# EAGLE library part XTEND-DIGI-MODEM (library SparkFun-RF)
Digi XTend 900 1W RF Transceiver The XTend Modem packs a ton of RF punch into a small, low-power, easy-to-use, and reliable module. Outdoors, with line-of-sight, this module can communicate at up to 40 miles; indoors it can still do up to 3000ft. The module transfers a standard asynchronous serial data stream, operates within the ISM 900MHz frequency band and sustains up to 115.2kbps data throughput. The module comes with an attached RPSMA antenna connector. SparkFun Products XTend 900 1W RPSMA - 40 Mile Range <https://www.sparkfun.com/products/9411> (WRL-09411)
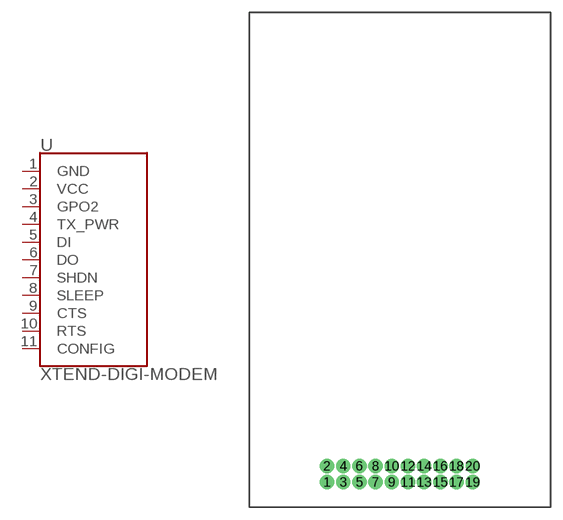
[diagram p14: symbol with the pads of XTEND-DIGI-MODEM; footprint XTEND-DIGI-MODEM]

Designator prefix -

## XTEND-DIGI-MODEM (SF_ID: WRL-09411)  [XTEND-DIGI-MODEM]
1  GND
2  VCC
3  GPO2
4  TX_PWR
5  DI
6  DO
7  SHDN
8  SLEEP
9  CTS
10  RTS
11  CONFIG

## Footprint XTEND-DIGI-MODEM (pad centres in mm)
Digi XTend 900 1W RF Module Module dimensions: 6.05 x 3.65 x 0.51 cm Package for the Xtend Digi Modem 40 mile range. Dimensional Drawing <https://www.sparkfun.com/datasheets/Wireless/Zigbee/xtend-mechanical.pdf> SparkFun Product Link <https://www.sparkfun.com/products/9411>
drill 1.016 pad 1.778: 1 -9,-27.5; 2 -9,-25.5; 3 -7,-27.5; 4 -7,-25.5; 5 -5,-27.5; 6 -5,-25.5; 7 -3,-27.5; 8 -3,-25.5; 9 -1,-27.5; 10 -1,-25.5; 11 1,-27.5; 12 1,-25.5; 13 3,-27.5; 14 3,-25.5; 15 5,-27.5; 16 5,-25.5; 17 7,-27.5; 18 7,-25.5; 19 9,-27.5; 20 9,-25.5